# Altium footprint library PG203J.PcbLib: 1 footprints
Each footprint in its own frame and in the unit in brackets; x right, y up, seen from the top. Pads: shape width x height; smd on the part's side, far side on the other; paste and mask are expansions set on the pad; w line width, h text height; cw(c..) or ccw(c..) is an arc to the next point about the centre after c.
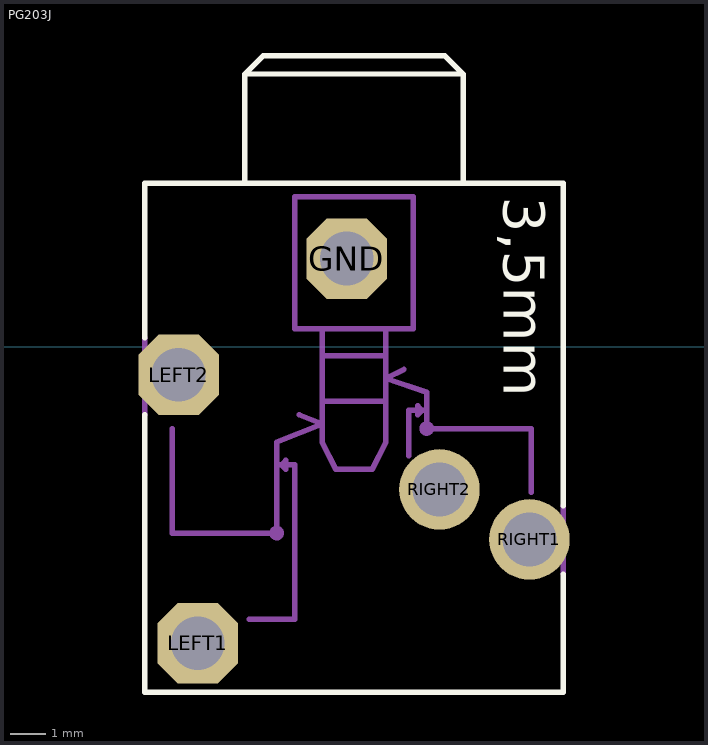
[diagram p0: the footprint, top view; thin cyan lines are the x and y axes]

## PG203J [mil]
pads (5):
  oct 88.5x88.5 hole 59: GND(-408,97) LEFT1(-572,-326) LEFT2(-593,-31)
  round 88.5 hole 59: RIGHT1(-207,-212) RIGHT2(-306,-157)
Top Overlay:
  lines w6: -630,-75 -630,-380 -170,-380 -170,-250 ; -630,10 -630,180 -520,180 ; -170,-175 -170,180 -280,180 ; -520,180 -520,300 ; -520,180 -280,180 ; -520,300 -500,320 -300,320 -280,300 ; -520,300 -280,300 ; -280,180 -280,300
  text "3,5mm" at -250,165 h77.5
Mechanical 16:
  circle w6: c-485,-205 r5
  circle w6: c-320,-90 r5
  lines w6: -630,-75 -630,10 ; -600,-90 -600,-205 -485,-205 -485,-130 ; -515,-300 -465,-300 -465,-130 -480,-130 ; -460,-75 -435,-85 ; -345,-25 -365,-35 ; -340,-120 -340,-70 -325,-70 ; -205,-160 -205,-90 -320,-90 -320,-70 ; -170,-250 -170,-175 ; -485,-130 -485,-105 -435,-85 ; -485,-130 -480,-130 ; -480,-130 -475,-125 -475,-135 -480,-130 ; -435,-85 -435,-105 -420,-135 -380,-135 -365,-105 -365,-60 ; -435,-85 -435,-60 ; -435,-60 -365,-60 ; -435,-60 -435,-10 ; -435,-10 -365,-10 ; -435,-10 -435,20 ; -435,20 -365,20 ; -435,20 -465,20 -465,165 -335,165 -335,20 -365,20 ; -365,-60 -365,-35 ; -365,-35 -320,-50 -320,-70 ; -365,-35 -365,-10 ; -365,-10 -365,20 ; -325,-70 -320,-70 ; -325,-70 -330,-65 -330,-75 -325,-70
  text "1" at -450,150 h77.5
  text "2" at -250,-265 h77.5
  text "3" at -350,-210 h77.5
  text "4" at -510,-315 h77.5
  text "5" at -585,-95 h77.5